# Altium footprint library PA1616D.PcbLib: 1 footprints
Each footprint in its own frame and in the unit in brackets; x right, y up, seen from the top. Pads: shape width x height; smd on the part's side, far side on the other; paste and mask are expansions set on the pad; w line width, h text height; cw(c..) or ccw(c..) is an arc to the next point about the centre after c.
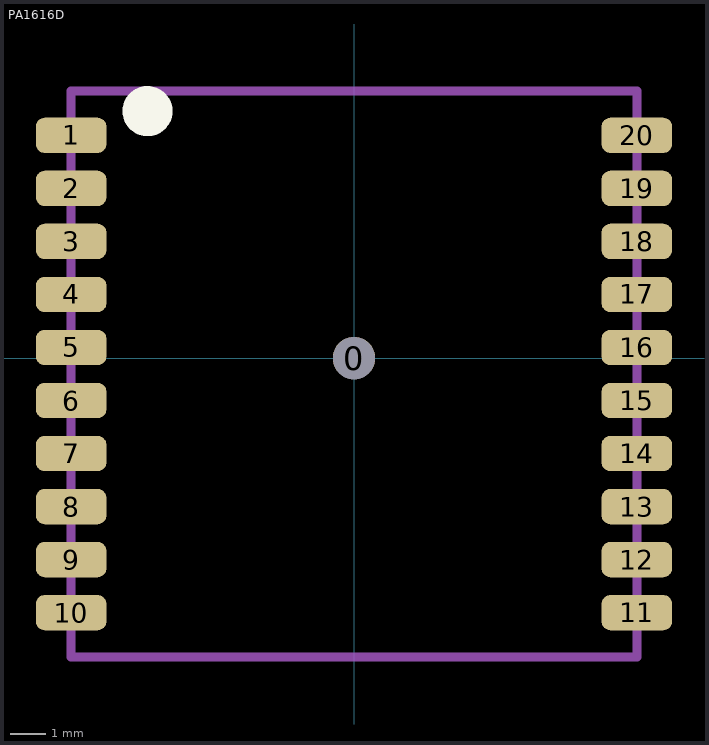
[diagram p0: the footprint, top view; thin cyan lines are the x and y axes]

## PA1616D [mm]
pads (21):
  round 1.2 hole 1.2 mask+0: 0(0,0)
  rrect50% 2x1 smd: 1(-8,6.3) 2(-8,4.8) 3(-8,3.3) 4(-8,1.8) 5(-8,0.3) 6(-8,-1.2) 7(-8,-2.7) 8(-8,-4.2) 9(-8,-5.7) 10(-8,-7.2) 11(8,-7.2) 12(8,-5.7) 13(8,-4.2) 14(8,-2.7) 15(8,-1.2) 16(8,0.3) 17(8,1.8) 18(8,3.3) 19(8,4.8) 20(8,6.3)
Top Overlay:
  circle w0.7: c-5.842,6.985 r0.359
Mechanical 1:
  lines w0.254: -8,-8.45 8,-8.45 8,7.55 -8,7.55 -8,-8.45